# EAGLE library part CY8C26443-24* (library cypress_micro)
The CY8C25xxx/26xxx family of Programmable System-on-Chip (PSoC) microcontrollers offers a fast core, Flash program memory and SRAM data memory with configurable analog and digital peripheral blocks in a range of convinient pinouts and memory size on one single chip.
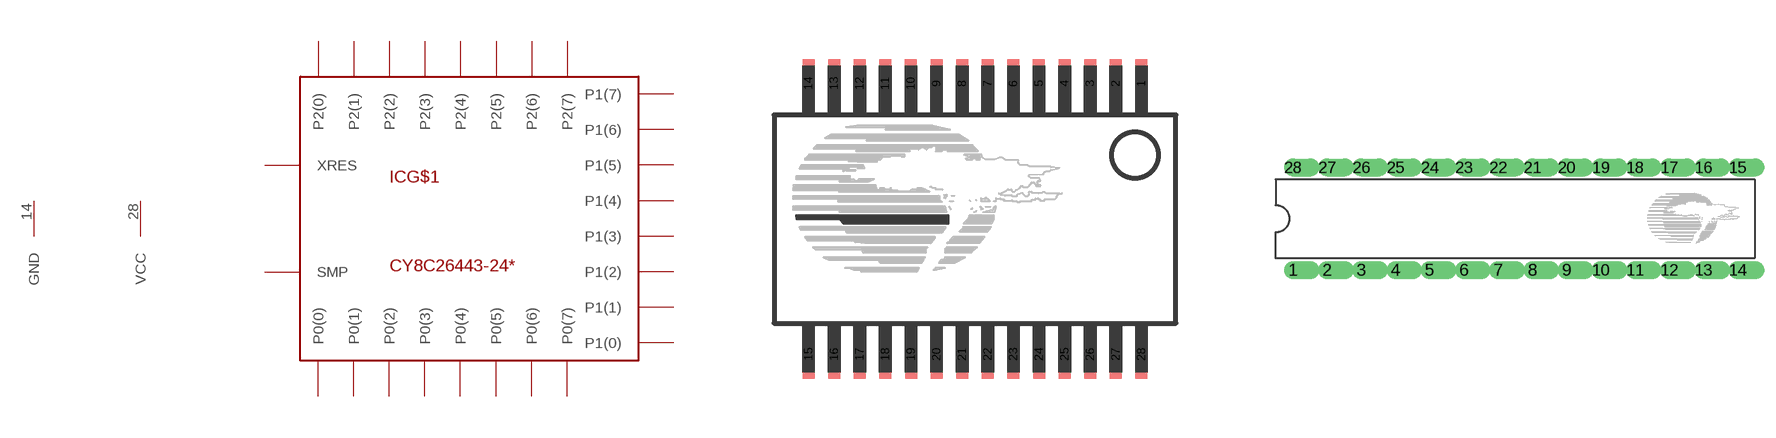
[diagram p1: symbol with the pads of SSOP28; footprints SSOP28, PDIP28]

Designator prefix IC; gates G$1=CY8C26443 G$2=GND G$3=VCC

## CY8C26443-24PVI  [SSOP28]
1  G$1:P0(7)
2  G$1:P0(5)
3  G$1:P0(3)
4  G$1:P0(1)
5  G$1:P2(7)
6  G$1:P2(5)
7  G$1:P2(3)
8  G$1:P2(1)
9  G$1:SMP  out
10  G$1:P1(7)
11  G$1:P1(5)
12  G$1:P1(3)
13  G$1:P1(1)
14  G$2:GND  pwr
15  G$1:P1(0)
16  G$1:P1(2)
17  G$1:P1(4)
18  G$1:P1(6)
19  G$1:XRES  in
20  G$1:P2(0)
21  G$1:P2(2)
22  G$1:P2(4)
23  G$1:P2(6)
24  G$1:P0(0)
25  G$1:P0(2)
26  G$1:P0(4)
27  G$1:P0(6)
28  G$3:VCC  pwr

## CY8C26443-24PI  [PDIP28]
Pads as for SSOP28

## CY8C26443-24SI  [SOIC28]
Pads as for SSOP28

## Footprint SSOP28 (pad centres in mm)
Shrunk Small Outline Package with 28 Pins
smd 0.305 x 1.245: 1 4.224,3.441; 2 3.574,3.441; 3 2.924,3.441; 4 2.274,3.441; 5 1.624,3.441; 6 0.974,3.441; 7 0.325,3.44; 8 -0.326,3.441; 9 -0.976,3.441; 10 -1.626,3.441; 11 -2.276,3.441; 12 -2.926,3.441; 13 -3.576,3.441; 14 -4.226,3.441; 15 -4.224,-3.441; 16 -3.574,-3.441; 17 -2.924,-3.441; 18 -2.274,-3.441; 19 -1.624,-3.441; 20 -0.974,-3.441; 21 -0.324,-3.441; 22 0.326,-3.441; 23 0.976,-3.441; 24 1.626,-3.441; 25 2.276,-3.441; 26 2.926,-3.441; 27 3.576,-3.441; 28 4.226,-3.441

## Footprint PDIP28 (pad centres in mm)
Plastic Dual Inline Package with 28 pins
drill 0.813 offset: 1 -16.51,-3.81; 2 -13.97,-3.81; 3 -11.43,-3.81; 4 -8.89,-3.81; 5 -6.35,-3.81; 6 -3.81,-3.81; 7 -1.27,-3.81; 8 1.27,-3.81; 9 3.81,-3.81; 10 6.35,-3.81; 11 8.89,-3.81; 12 11.43,-3.81; 13 13.97,-3.81; 14 16.51,-3.81; 15 16.51,3.81; 16 13.97,3.81; 17 11.43,3.81; 18 8.89,3.81; 19 6.35,3.81; 20 3.81,3.81; 21 1.27,3.81; 22 -1.27,3.81; 23 -3.81,3.81; 24 -6.35,3.81; 25 -8.89,3.81; 26 -11.43,3.81; 27 -13.97,3.81; 28 -16.51,3.81

## Footprint SOIC28 (pad centres in mm)
SOIC with 20 pins
smd 0.6 x 2.2: 1 8.89,4.548; 2 7.62,4.548; 3 6.35,4.548; 4 5.08,4.548; 5 3.81,4.548; 6 2.54,4.548; 7 1.27,4.548; 8 0,4.548; 9 -1.27,4.548; 10 -2.54,4.548; 11 -3.81,4.548; 12 -5.08,4.548; 13 -6.35,4.548; 14 -7.62,4.548; 15 -7.62,-4.548; 16 -6.35,-4.548; 17 -5.08,-4.548; 18 -3.81,-4.548; 19 -2.54,-4.548; 20 -1.27,-4.548; 21 0,-4.548; 22 1.27,-4.548; 23 2.54,-4.548; 24 3.81,-4.548; 25 5.08,-4.548; 26 6.35,-4.548; 27 7.62,-4.548; 28 8.89,-4.548